# EAGLE library part RT6254BHGJ6F (library RT6254BHGJ6F)
RICHTEK - RT6254BHGJ6F - DC/DC CONV, SYNC BUCK, 500KHZ, TSOT-23-6 Source: Datasheet <https://4donline.ihs.com/images/VipMasterIC/IC/RHTK/RHTK-S-A0009164484/RHTK-S-A0009164484-1.pdf?hkey=EF798316E3902B6ED9A73243A3159BB0>
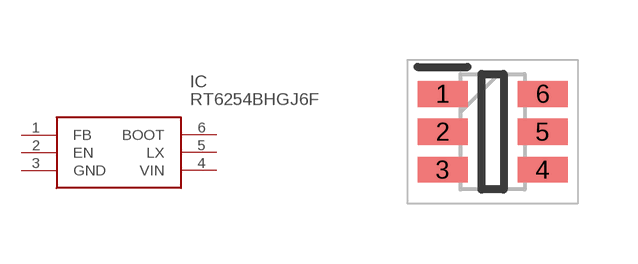
[diagram p0: symbol with the pads of SOT95P280X100-6N; footprint SOT95P280X100-6N]

Designator prefix IC

## RT6254BHGJ6F (Description: RICHTEK - RT6254BHGJ6F - DC/DC CONV, SYNC BUCK, 500KHZ, TSOT-23-6; Height: 1mm; Manufacturer_Name: RICHTEK; Manufacturer_Part_Number: RT6254BHGJ6F; Mouser_Part_Number: 835-RT6254BHGJ6F; Mouser_Price-Stock: https://www.mouser.co.uk/ProductDetail/Richtek/RT6254BHGJ6F?qs=amGC7iS6iy9rwZmDNPA8RA%3D%3D)  [SOT95P280X100-6N]
1  FB
2  EN
3  GND
4  VIN
5  LX
6  BOOT

## Footprint SOT95P280X100-6N (pad centres in mm)
TSOT-23-6 (FC
smd 1.25 x 0.65: 1 -1.25,0.95; 2 -1.25,0; 3 -1.25,-0.95; 4 1.25,-0.95; 5 1.25,0; 6 1.25,0.95